# EAGLE library part 78646-3001 (library 78646-3001)
MICRO SIM CONNECTOR, PUSH PULL
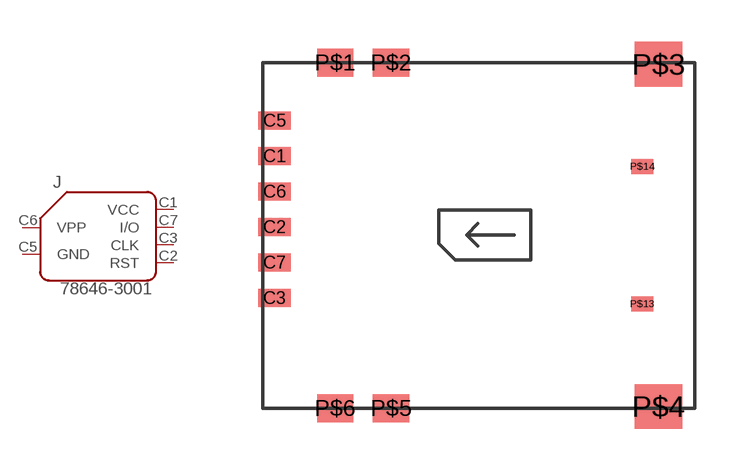
[diagram p0: symbol with the pads of MICRO-SIM_CARD_HOLDER; footprint MICRO-SIM_CARD_HOLDER]

Designator prefix J

## 78646-3001 (Availability: Good; Description: Conn Micro SIM Card SKT 6 POS 2.54mm Solder RA SMD 0.5A/Contact Embossed T/R; MF: Molex; MP: 78646-3001; Package: None; Price: 0.69 USD)  [MICRO-SIM_CARD_HOLDER]
C1  VCC  pwr
C2  RST  in
C3  CLK  in
C5  GND  pwr
C6  VPP  in
C7  I/O

## Footprint MICRO-SIM_CARD_HOLDER (pad centres in mm)
smd 1.15 x 0.65: C1 0.37,9.025; C2 0.37,6.485; C3 0.37,3.945; C5 0.37,10.295; C6 0.37,7.755; C7 0.37,5.215
smd 1.3 x 1: P$1 2.54,12.37; P$2 4.54,12.37; P$5 4.54,0; P$6 2.54,0
smd 1.7 x 1.6: P$3 14.1,12.31; P$4 14.1,0.06
smd 0.8 x 0.54: P$13 13.52,3.73; P$14 13.52,8.65